# Altium footprint library MINIRACER.PcbLib: 33 footprints (part 1 of 3)
Each footprint in its own frame and in the unit in brackets; x right, y up, seen from the top. Pads: shape width x height; smd on the part's side, far side on the other; paste and mask are expansions set on the pad; w line width, h text height; cw(c..) or ccw(c..) is an arc to the next point about the centre after c.
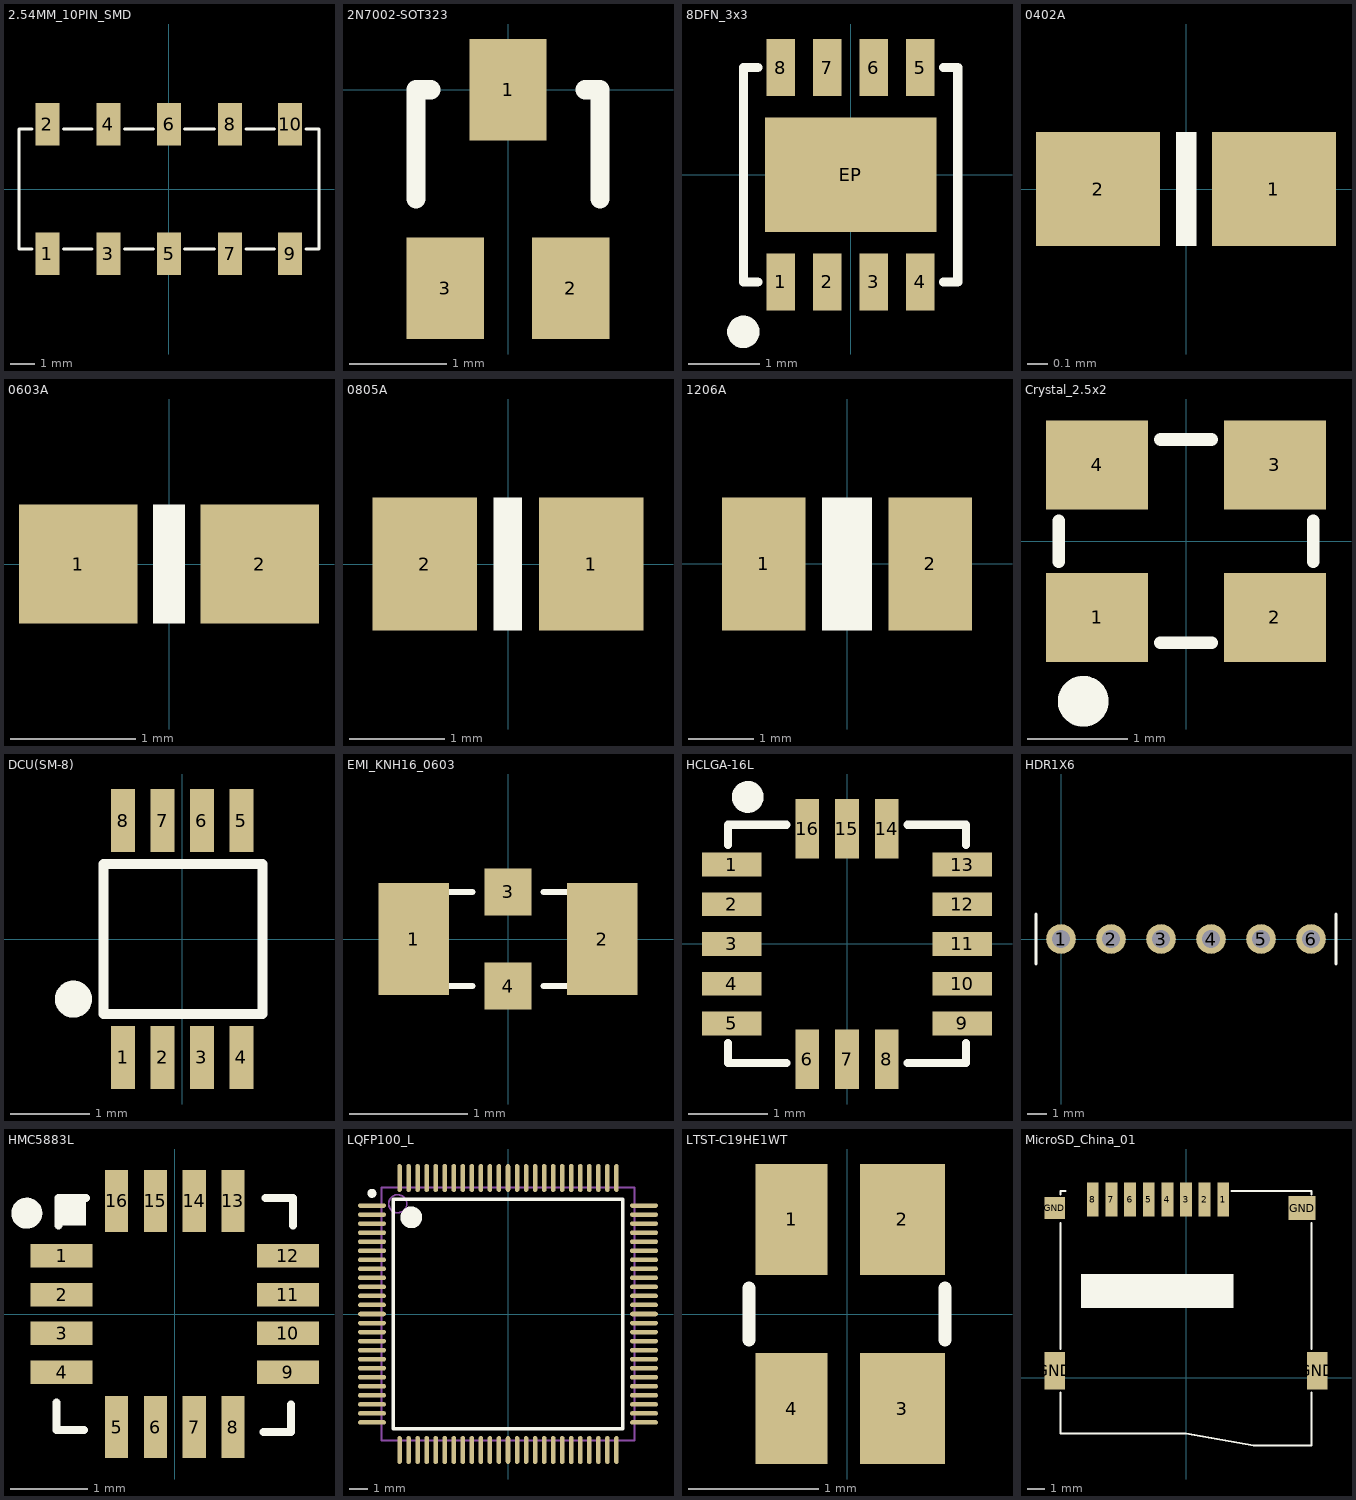
[diagram p0: the footprints below, top view; thin cyan lines are the x and y axes]

## 2.54MM_10PIN_SMD [mm]
pads (10):
  rect 1x1.78 smd: 1(-5.06,-2.7) 2(-5.06,2.7) 3(-2.52,-2.7) 4(-2.52,2.7) 5(0.02,-2.7) 6(0.02,2.7) 7(2.56,-2.7) 8(2.56,2.7) 9(5.06,-2.7) 10(5.06,2.7)
Top Overlay:
  lines w0.127: -5.69,-2.5 -6.24,-2.5 -6.24,2.5 -5.69,2.5 ; -4.39,-2.5 -3.19,-2.5 ; -4.39,2.5 -3.19,2.5 ; -1.84,-2.5 -0.64,-2.5 ; -1.84,2.5 -0.64,2.5 ; 0.66,-2.5 1.91,-2.5 ; 0.66,2.5 1.91,2.5 ; 3.21,-2.5 4.41,-2.5 ; 3.21,2.5 4.41,2.5 ; 5.71,-2.5 6.26,-2.5 6.26,2.5 5.71,2.5

## 2N7002-SOT323 [mm]
height 1.6
pads (3):
  rect 0.8x1.05 smd: 1(0,0) 2(0.65,-2.05) 3(-0.65,-2.05)
Top Overlay:
  lines w0.2: -0.95,-1.125 -0.95,0 -0.8,0 ; 0.8,0 0.95,0 0.95,-1.125

## 8DFN_3x3 [mm]
pads (9):
  rect 0.4x0.8 smd: 1(-0.975,-1.5) 2(-0.325,-1.5) 3(0.325,-1.5) 4(0.975,-1.5) 5(0.975,1.5) 6(0.325,1.5) 7(-0.325,1.5) 8(-0.975,1.5)
  rect 2.4x1.6 smd: EP(0,0)
Top Overlay:
  circle w0.254: c-1.5,-2.2 r0.1
  lines w0.127: -1.3,-1.5 -1.5,-1.5 -1.5,1.5 -1.3,1.5 ; 1.3,-1.5 1.5,-1.5 1.5,1.5 1.3,1.5

## 0402A [mm]
height 0.3
pads (2):
  rect 0.6x0.55 smd: 1(0.425,0) 2(-0.425,0)
Top Overlay:
  rectangle: -0.049,-0.275 0.051,0.275

## 0603A [mm]
height 0.3
pads (2):
  rect 0.95x0.95 smd: 1(-0.725,0) 2(0.725,0)
Top Overlay:
  rectangle: -0.127,-0.474 0.127,0.476

## 0805A [mm]
pads (2):
  rect 1.1x1.4 smd: 1(0.875,0) 2(-0.875,0)
Top Overlay:
  rectangle: -0.152,-0.699 0.148,0.701

## 1206A [mil]
height 11.81
pads (2):
  rect 50x80 smd: 1(-50,0) 2(50,0)
Top Overlay:
  rectangle: -15,-40 15,40

## Crystal_2.5x2 [mil]
height 62.99
pads (4):
  rect 40x35 smd: 1(-35,-30) 2(35,-30) 3(35,30) 4(-35,30)
Top Overlay:
  circle w10: c-40.43,-62.99 r5
  lines w5: -50,-8 -50,8 ; -10,-40 10,-40 ; -10,40 10,40 ; 50,-8 50,8

## DCU(SM-8) [mm]
height 0.3
pads (8):
  rect 0.3x0.8 smd: 1(-0.75,-1.5) 2(-0.25,-1.5) 3(0.25,-1.5) 4(0.75,-1.5) 5(0.75,1.5) 6(0.25,1.5) 7(-0.25,1.5) 8(-0.75,1.5)
Top Overlay:
  circle w0.254: c-1.378,-0.762 r0.108
  lines w0.127: -1,-0.95 1.016,-0.95 1.016,0.95 -1,0.95 -1,-0.95

## EMI_KNH16_0603 [mm]
height 1.2
pads (4):
  rect 0.6x0.95 smd: 1(-0.8,0) 2(0.8,0)
  rect 0.4x0.4 smd: 3(0,0.4) 4(0,-0.4)
Top Overlay:
  lines w0.051: -0.8,-0.4 -0.3,-0.4 ; -0.8,0.4 -0.3,0.4 ; 0.3,-0.4 0.8,-0.4 ; 0.3,0.4 0.8,0.4

## HCLGA-16L [mm]
pads (16):
  rect 0.75x0.3 smd: 1(-1.45,1) 2(-1.45,0.5) 3(-1.45,0) 4(-1.45,-0.5) 5(-1.45,-1) 9(1.45,-1) 10(1.45,-0.5) 11(1.45,0) 12(1.45,0.5) 13(1.45,1)
  rect 0.3x0.75 smd: 6(-0.5,-1.45) 7(0,-1.45) 8(0.5,-1.45) 14(0.5,1.45) 15(0,1.45) 16(-0.5,1.45)
Top Overlay:
  circle w0.2: c-1.248,1.85 r0.1
  lines w0.102: -1.5,-1.246 -1.5,-1.5 -0.761,-1.5 ; -1.5,1.246 -1.5,1.5 -0.762,1.5 ; 0.761,1.5 1.5,1.5 1.5,1.246 ; 0.762,-1.5 1.5,-1.5 1.5,-1.246

## HDR1X6 [mm] "Connector; Header; 6 Position"
pads (6):
  round 1.5 / inner round 1.2 / far side round 1.5 hole 0.9: 1(0,0) 2(2.54,0) 3(5.08,0) 4(7.62,0) 5(10.16,0) 6(12.7,0)
Top Overlay:
  lines w0.15: -1.27,-1.27 -1.27,1.27 ; 13.97,-1.27 13.97,1.27

## HMC5883L [mil]
pads (16):
  rect 31.5x11.81 smd: 1(-57.5,29.52) 2(-57.5,9.84) 3(-57.5,-9.84) 4(-57.5,-29.52) 9(57.5,-29.52) 10(57.5,-9.84) 11(57.5,9.84) 12(57.5,29.52)
  rect 11.81x31.5 smd: 5(-29.52,-57.5) 6(-9.84,-57.5) 7(9.84,-57.5) 8(29.52,-57.5) 13(29.52,57.5) 14(9.84,57.5) 15(-9.84,57.5) 16(-29.52,57.5)
Top Overlay:
  circle w7.87: c-75.16,51.19 r3.94
  rectangle: -58.83,45 -45.03,58.8
  lines w4: -60,-45 -60,-59 -46,-59 ; -59,45 -59,59 -45,59 ; 45,-60 59,-60 59,-46 ; 46,59 60,59 60,45

## LQFP100_L [mm] "Thin QFP, 100-Leads, Body 14x14mm, Pitch 0.5mm, IPC High Density"
height 1.6
pads (100):
  oval 1.55x0.25 smd: 1(-7.525,6) 2(-7.525,5.5) 3(-7.525,5) 4(-7.525,4.5) 5(-7.525,4) 6(-7.525,3.5) 7(-7.525,3) 8(-7.525,2.5) 9(-7.525,2) 10(-7.525,1.5) 11(-7.525,1) 12(-7.525,0.5) 13(-7.525,0) 14(-7.525,-0.5) 15(-7.525,-1) 16(-7.525,-1.5) 17(-7.525,-2) 18(-7.525,-2.5) 19(-7.525,-3) 20(-7.525,-3.5) 21(-7.525,-4) 22(-7.525,-4.5) 23(-7.525,-5) 24(-7.525,-5.5) 25(-7.525,-6) 51(7.525,-6) 52(7.525,-5.5) 53(7.525,-5) 54(7.525,-4.5) 55(7.525,-4) 56(7.525,-3.5) 57(7.525,-3) 58(7.525,-2.5) 59(7.525,-2) 60(7.525,-1.5) 61(7.525,-1) 62(7.525,-0.5) 63(7.525,0) 64(7.525,0.5) 65(7.525,1) 66(7.525,1.5) 67(7.525,2) 68(7.525,2.5) 69(7.525,3) 70(7.525,3.5) 71(7.525,4) 72(7.525,4.5) 73(7.525,5) 74(7.525,5.5) 75(7.525,6)
  oval 0.25x1.55 smd: 26(-6,-7.525) 27(-5.5,-7.525) 28(-5,-7.525) 29(-4.5,-7.525) 30(-4,-7.525) 31(-3.5,-7.525) 32(-3,-7.525) 33(-2.5,-7.525) 34(-2,-7.525) 35(-1.5,-7.525) 36(-1,-7.525) 37(-0.5,-7.525) 38(0,-7.525) 39(0.5,-7.525) 40(1,-7.525) 41(1.5,-7.525) 42(2,-7.525) 43(2.5,-7.525) 44(3,-7.525) 45(3.5,-7.525) 46(4,-7.525) 47(4.5,-7.525) 48(5,-7.525) 49(5.5,-7.525) 50(6,-7.525) 76(6,7.525) 77(5.5,7.525) 78(5,7.525) 79(4.5,7.525) 80(4,7.525) 81(3.5,7.525) 82(3,7.525) 83(2.5,7.525) 84(2,7.525) 85(1.5,7.525) 86(1,7.525) 87(0.5,7.525) 88(0,7.525) 89(-0.5,7.525) 90(-1,7.525) 91(-1.5,7.525) 92(-2,7.525) 93(-2.5,7.525) 94(-3,7.525) 95(-3.5,7.525) 96(-4,7.525) 97(-4.5,7.525) 98(-5,7.525) 99(-5.5,7.525) 100(-6,7.525)
Top Overlay:
  circle w0.6: c-5.35,5.35 r0.3
  circle w0.25: c-7.525,6.675 r0.125
  lines w0.2: -6.35,-6.35 6.35,-6.35 6.35,6.35 -6.35,6.35 -6.35,-6.35
Mechanical 13:
  circle w0.1: c-6.1,6.1 r0.5
  lines w0.1: -7,-7 7,-7 7,7 -7,7 -7,-7
3D body: height 1.6, standoff 0, extent -7,-7 7,7

## LTST-C19HE1WT [mm]
height 1.6
pads (4):
  rect 0.55x0.85 smd: 1(-0.425,0.725) 4(-0.425,-0.725)
  rect 0.65x0.85 smd: 2(0.425,0.725) 3(0.425,-0.725)
Top Overlay:
  lines w0.1: -0.75,-0.2 -0.75,0.2 ; 0.75,-0.2 0.75,0.2

## MicroSD_China_01 [mm]
pads (13):
  rect 0.7x2 smd: 1(2.2,10.5) 2(1.1,10.5) 3(0,10.5) 4(-1.1,10.5) 5(-2.2,10.5) 6(-3.3,10.5) 7(-4.4,10.5) 8(-5.5,10.5)
  rect 0x0 smd: 9(-6.6,10.5)
  rect 1.2x2.2 smd: GND(-7.75,0.4) GND(7.75,0.4)
  rect 1.2x1.3 smd: GND(-7.75,10)
  rect 1.6x1.4 smd: GND(6.85,10)
Top Overlay:
  rectangle: -6.2,4.1 2.8,6.1
  lines w0.127: -7.4,-0.9 -7.4,-3.3 0,-3.3 4,-4 7.4,-4 7.4,-0.9 ; -7.4,1.7 -7.4,9.1 ; -7.4,10.8 -7.4,11 -7.1,11 ; 2.7,11 7.4,11 7.4,10.8 ; 7.4,1.7 7.4,9.1